# EAGLE library part CC1101 (library Eagle-Lib)
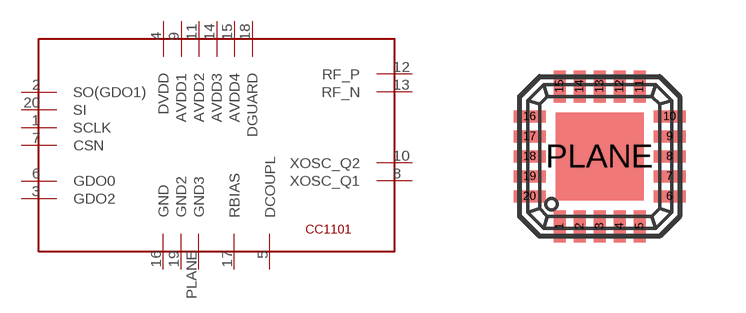
[diagram p7: symbol with the pads of VQFN20; footprint VQFN20]

Designator prefix -

## CC1101  [VQFN20]
1  SCLK
2  SO(GDO1)
3  GDO2
4  DVDD
5  DCOUPL
6  GDO0
7  CSN
8  XOSC_Q1
9  AVDD1
10  XOSC_Q2
11  AVDD2
12  RF_P
13  RF_N
14  AVDD3
15  AVDD4
16  GND
17  RBIAS
18  DGUARD
19  GND2
20  SI
PLANE  GND3

## Footprint VQFN20 (pad centres in mm)
smd 0.3 x 0.8: 1 -1,-1.75; 2 -0.5,-1.75; 3 0,-1.75; 4 0.5,-1.75; 5 1,-1.75; 11 1,1.75; 12 0.5,1.75; 13 0,1.75; 14 -0.5,1.75; 15 -1,1.75
smd 0.8 x 0.3: 6 1.75,-1; 7 1.75,-0.5; 8 1.75,0; 9 1.75,0.5; 10 1.75,1; 16 -1.75,1; 17 -1.75,0.5; 18 -1.75,0; 19 -1.75,-0.5; 20 -1.75,-1
smd 2.2 x 2.2: PLANE 0,0